# EAGLE library part AD9984 (library personal)
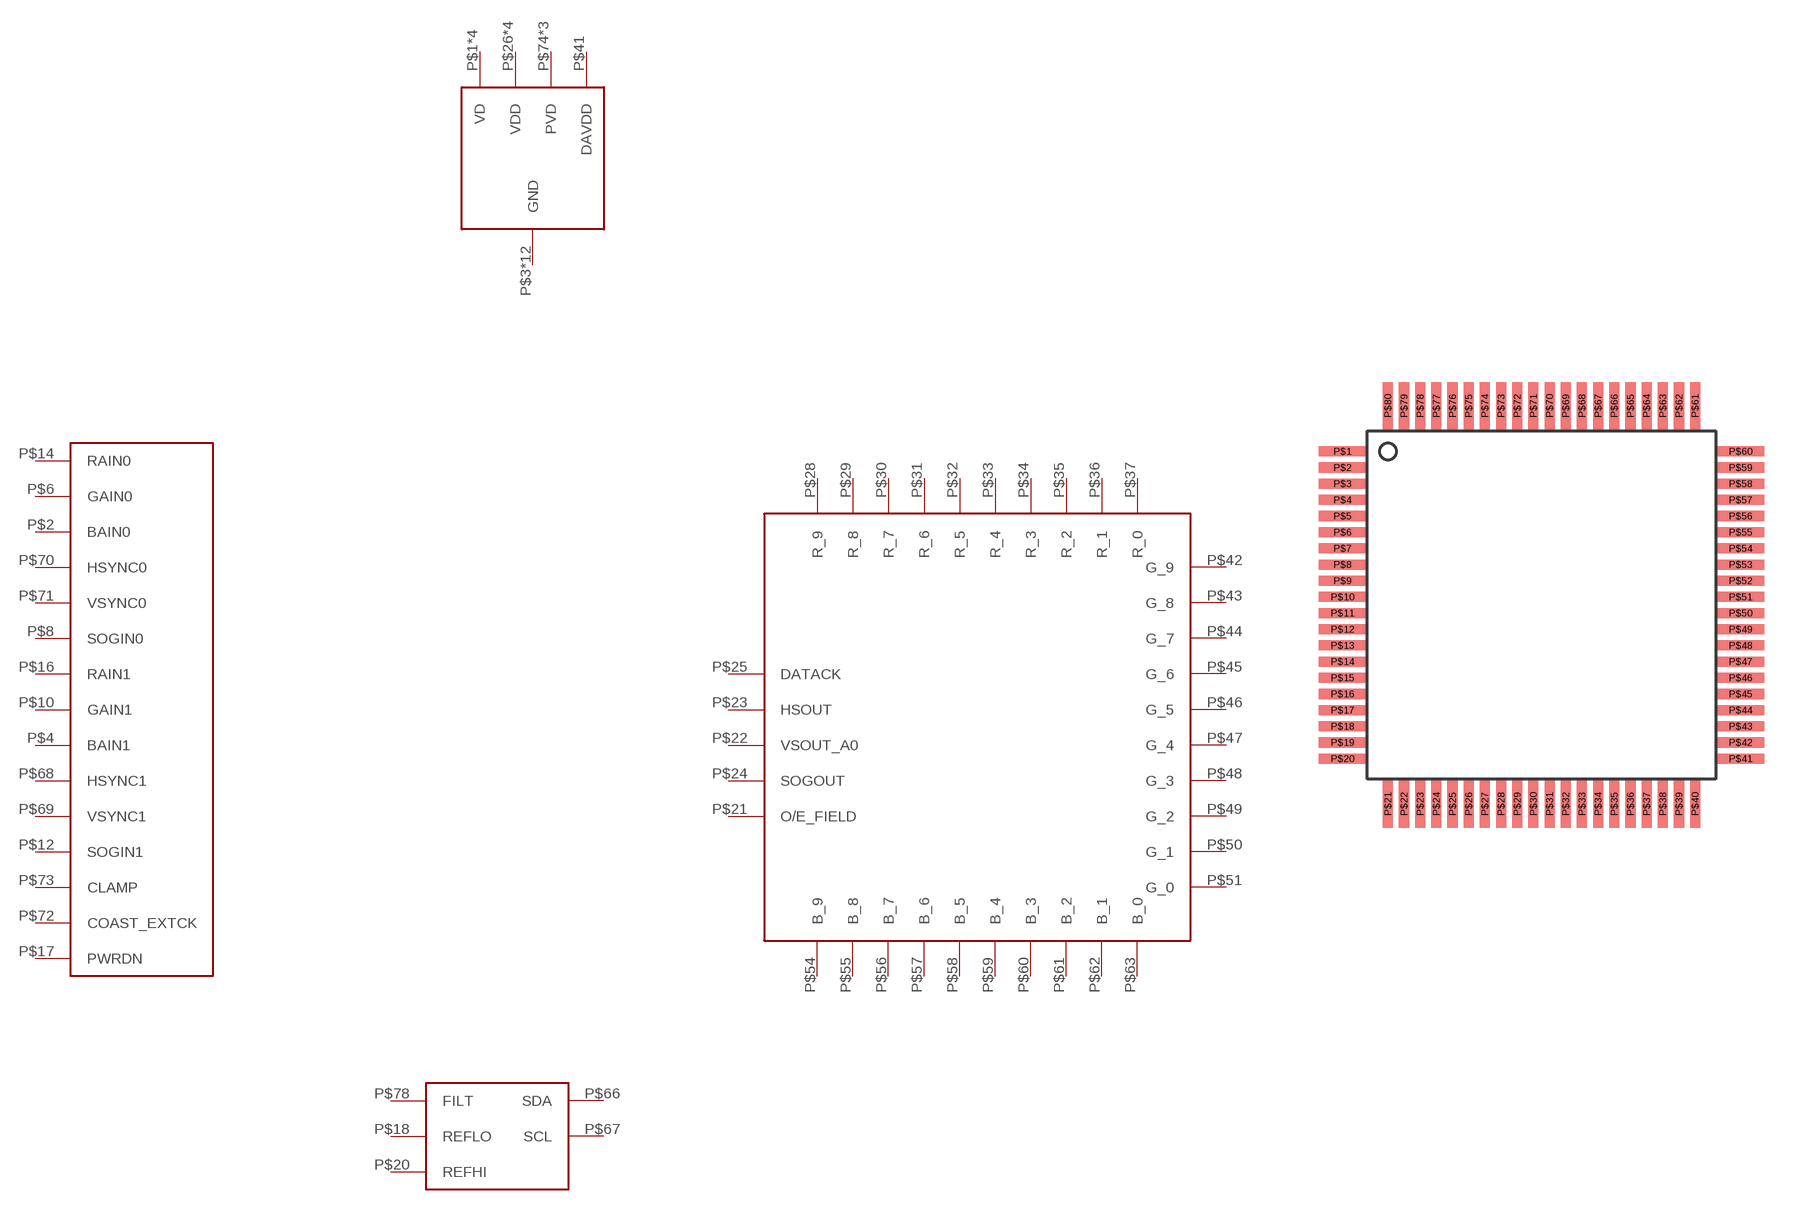
[diagram p3: symbol with the pads of LQFP-80; footprint LQFP-80]

Designator prefix -; gates G$1=AD9984-CTRL G$2=AD9984-INPUTS G$3=AD9984-OUTPUTS G$4=AD9984-PWR

## AD9984  [LQFP-80]
P$1  G$4:VD
P$2  G$2:BAIN0
P$3  G$4:GND
P$4  G$2:BAIN1
P$5  G$4:VD
P$6  G$2:GAIN0
P$7  G$4:GND
P$8  G$2:SOGIN0
P$9  G$4:VD
P$10  G$2:GAIN1
P$11  G$4:GND
P$12  G$2:SOGIN1
P$13  G$4:VD
P$14  G$2:RAIN0
P$15  G$4:GND
P$16  G$2:RAIN1
P$17  G$2:PWRDN
P$18  G$1:REFLO
P$20  G$1:REFHI
P$21  G$3:O/E_FIELD
P$22  G$3:VSOUT_A0
P$23  G$3:HSOUT
P$24  G$3:SOGOUT
P$25  G$3:DATACK
P$26  G$4:VDD
P$27  G$4:GND
P$28  G$3:R_9
P$29  G$3:R_8
P$30  G$3:R_7
P$31  G$3:R_6
P$32  G$3:R_5
P$33  G$3:R_4
P$34  G$3:R_3
P$35  G$3:R_2
P$36  G$3:R_1
P$37  G$3:R_0
P$38  G$4:VDD
P$39  G$4:GND
P$40  G$4:GND
P$41  G$4:DAVDD
P$42  G$3:G_9
P$43  G$3:G_8
P$44  G$3:G_7
P$45  G$3:G_6
P$46  G$3:G_5
P$47  G$3:G_4
P$48  G$3:G_3
P$49  G$3:G_2
P$50  G$3:G_1
P$51  G$3:G_0
P$52  G$4:VDD
P$53  G$4:GND
P$54  G$3:B_9
P$55  G$3:B_8
P$56  G$3:B_7
P$57  G$3:B_6
P$58  G$3:B_5
P$59  G$3:B_4
P$60  G$3:B_3
P$61  G$3:B_2
P$62  G$3:B_1
P$63  G$3:B_0
P$64  G$4:VDD
P$65  G$4:GND
P$66  G$1:SDA
P$67  G$1:SCL
P$68  G$2:HSYNC1
P$69  G$2:VSYNC1
P$70  G$2:HSYNC0
P$71  G$2:VSYNC0
P$72  G$2:COAST_EXTCK
P$73  G$2:CLAMP
P$74  G$4:PVD
P$75  G$4:GND
P$76  G$4:PVD
P$77  G$4:GND
P$78  G$1:FILT
P$79  G$4:PVD
P$80  G$4:GND

## Footprint LQFP-80 (pad centres in mm)
smd 1.9 x 0.406: P$1 -8,6.175; P$2 -8,5.525; P$3 -8,4.875; P$4 -8,4.225; P$5 -8,3.575; P$6 -8,2.925; P$7 -8,2.275; P$8 -8,1.625; P$9 -8,0.975; P$10 -8,0.325; P$11 -8,-0.325; P$12 -8,-0.975; P$13 -8,-1.625; P$14 -8,-2.275; P$15 -8,-2.925; P$16 -8,-3.575; P$17 -8,-4.225; P$18 -8,-4.875; P$19 -8,-5.525; P$20 -8,-6.175; P$41 8,-6.175; P$42 8,-5.525; P$43 8,-4.875; P$44 8,-4.225; P$45 8,-3.575; P$46 8,-2.925; P$47 8,-2.275; P$48 8,-1.625; P$49 8,-0.975; P$50 8,-0.325; P$51 8,0.325; P$52 8,0.975; P$53 8,1.625; P$54 8,2.275; P$55 8,2.925; P$56 8,3.575; P$57 8,4.225; P$58 8,4.875; P$59 8,5.525; P$60 8,6.175
smd 0.406 x 1.9: P$21 -6.175,-8; P$22 -5.525,-8; P$23 -4.875,-8; P$24 -4.225,-8; P$25 -3.575,-8; P$26 -2.925,-8; P$27 -2.275,-8; P$28 -1.625,-8; P$29 -0.975,-8; P$30 -0.325,-8; P$31 0.325,-8; P$32 0.975,-8; P$33 1.625,-8; P$34 2.275,-8; P$35 2.925,-8; P$36 3.575,-8; P$37 4.225,-8; P$38 4.875,-8; P$39 5.525,-8; P$40 6.175,-8; P$61 6.175,8; P$62 5.525,8; P$63 4.875,8; P$64 4.225,8; P$65 3.575,8; P$66 2.925,8; P$67 2.275,8; P$68 1.625,8; P$69 0.975,8; P$70 0.325,8; P$71 -0.325,8; P$72 -0.975,8; P$73 -1.625,8; P$74 -2.275,8; P$75 -2.925,8; P$76 -3.575,8; P$77 -4.225,8; P$78 -4.875,8; P$79 -5.525,8; P$80 -6.175,8